# EAGLE library part 43045-0821 (library con-Molex)
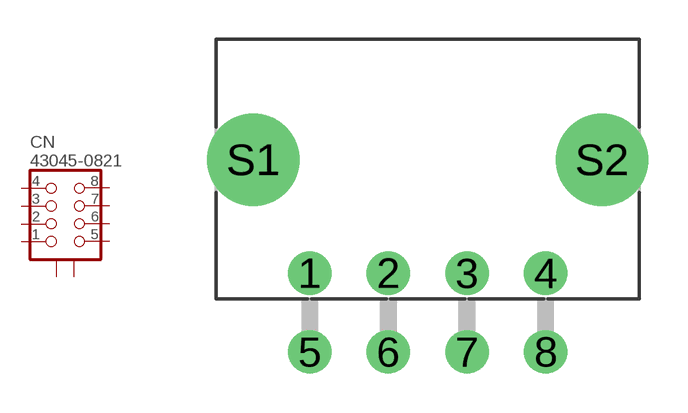
[diagram p1: symbol with the pads of 43045-0821; footprint 43045-0821]

Designator prefix CN

## 43045-0821  [43045-0821]
1  1  pas
2  2  pas
3  3  pas
4  4  pas
5  5  pas
6  6  pas
7  7  pas
8  8  pas
S1  S1  pas
S2  S2  pas

## Footprint 43045-0821 (pad centres in mm)
drill 1.1: 1 -4.5,-4.32; 2 -1.5,-4.32; 3 1.5,-4.32; 4 4.5,-4.32; 5 -4.5,-7.32; 6 -1.5,-7.32; 7 1.5,-7.32; 8 4.5,-7.32
drill 2.5: S1 -6.65,0; S2 6.65,0